# Altium footprint library 1830596.PcbLib: 1 footprints
Each footprint in its own frame and in the unit in brackets; x right, y up, seen from the top. Pads: shape width x height; smd on the part's side, far side on the other; paste and mask are expansions set on the pad; w line width, h text height; cw(c..) or ccw(c..) is an arc to the next point about the centre after c.
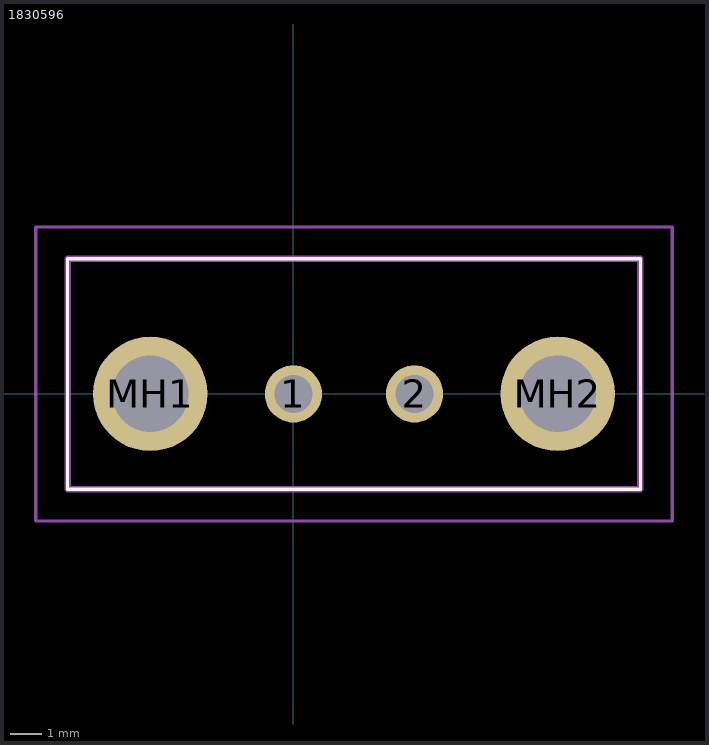
[diagram p0: the footprint, top view; thin cyan lines are the x and y axes]

## 1830596 [mm]
pads (4):
  round 1.8 hole 1.2: 1(0,0) 2(3.81,0)
  round 3.6 hole 2.4: MH1(-4.5,0) MH2(8.31,0)
Top Overlay:
  lines w0.1: -7.1,-3 -7.1,4.25 10.91,4.25 10.91,-3 -7.1,-3
Mechanical 15:
  lines w0.2: -7.1,-3 -7.1,4.25 10.91,4.25 10.91,-3 -7.1,-3
Mechanical 20:
  lines w0.1: -8.1,-4 -8.1,5.25 11.91,5.25 11.91,-4 -8.1,-4
3D body "1830596.stp": height 9.2, standoff -3.4, extent -7.1,-3.059 10.91,4.191